# Altium schematic symbol library TLV76733DGNR.SchLib: 1 symbol
Pins are listed as number, name and electrical type; pins without a type are passive.

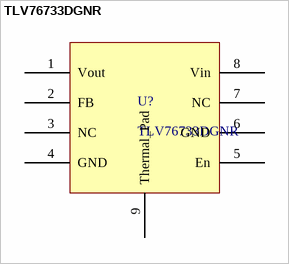
[diagram p0: symbol TLV76733DGNR]

## TLV76733DGNR
designator U?
footprint VREG_TLV76701DGNR
pins: 1 Vout, 2 FB, 3 NC, 4 GND, 5 En, 6 GND, 7 NC, 8 Vin, 9 Thermal_Pad